# Altium footprint library cahrgebot_digital.PcbLib: 72 footprints (part 2 of 5)
Each footprint in its own frame and in the unit in brackets; x right, y up, seen from the top. Pads: shape width x height; smd on the part's side, far side on the other; paste and mask are expansions set on the pad; w line width, h text height; cw(c..) or ccw(c..) is an arc to the next point about the centre after c.
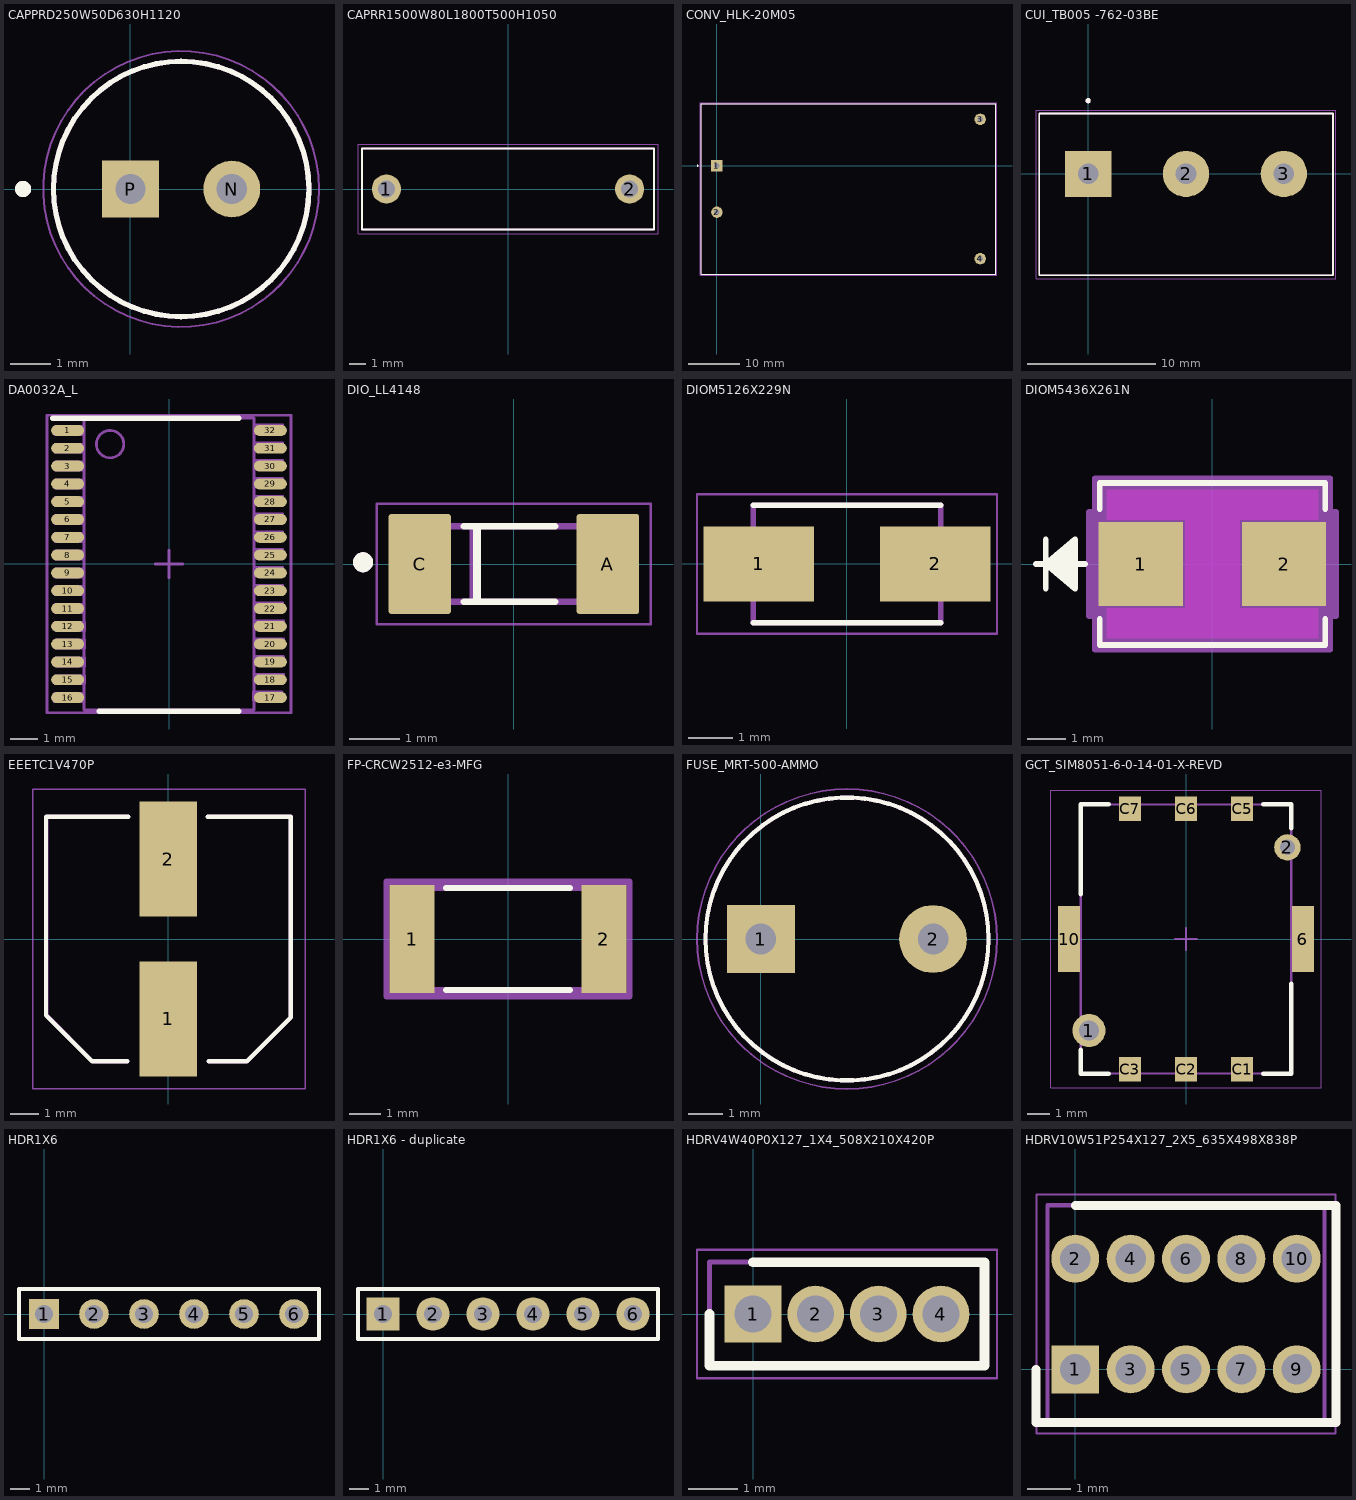
[diagram p1: the footprints below, top view; thin cyan lines are the x and y axes]

## CAPPRD250W50D630H1120 [mm]
height 12.2
pads (2):
  round 1.4 hole 0.75: N(2.5,0)
  rect 1.4x1.4 hole 0.75: P(0,0)
Top Overlay:
  circle w0.127: c1.25,0 r3.15
  circle w0.2: c-2.65,0 r0.1
Top Component Outline:
  circle w0.127: c1.25,0 r3.15
  circle w0.2: c-2.65,0 r0.1
  circle w0.127: c1.25,0 r3.15
Top Courtyard:
  circle w0.05: c1.25,0 r3.4
Top Designator:
  text ".Designator" at -2.335,3.86 h1.52
3D body "step_temp.STEP": height 11.2, standoff -17, extent -1.9,-3.149 4.4,3.149

## CAPRR1500W80L1800T500H1050 [mm]
pads (2):
  round 1.8 hole 1.05: 1(-7.5,0) 2(7.5,0)
Top Overlay:
  lines w0.127: -9,-2.5 -9,2.5 9,2.5 9,-2.5 -9,-2.5
Top Component Outline:
  lines w0.127: -9,-2.5 9,-2.5 9,2.5 -9,2.5 -9,-2.5
Top Courtyard:
  lines w0.05: -9.25,-2.75 9.25,-2.75 9.25,2.75 -9.25,2.75 -9.25,-2.75

## CONV_HLK-20M05 [mm]
height 21.8
pads (4):
  rect 2.2x2.2 hole 1.1: 1(0,0)
  round 2.2 hole 1.1: 2(0,-9) 3(51,9) 4(51,-18)
Top Overlay:
  circle w0.2: c-3.75,0 r0.1
  lines w0.127: -3,-21 -3,12 54,12 54,-21 -3,-21
Top Component Outline:
  circle w0.2: c-3.75,0 r0.1
  lines w0.127: -3,-21 -3,12 ; -3,-21 54,-21 ; -3,-21 54,-21 ; -3,-21 -3,12 ; -3,12 54,12 ; -3,12 54,12 ; 54,-21 54,12 ; 54,-21 54,12
Top Courtyard:
  lines w0.05: -3.25,-21.25 -3.25,12.25 54.25,12.25 54.25,-21.25 -3.25,-21.25
Top Designator:
  text ".Designator" at 21.526,12.813 h1.52
3D body "step_temp.STEP": height 22.5, standoff -5, extent -3,-21 54,12

## CUI_TB005 -762-03BE [mm]
height 21.7
pads (3):
  rect 3.6x3.6 hole 1.6: 1(0,0)
  round 3.6 hole 1.6: 2(7.62,0) 3(15.24,0)
Top Overlay:
  circle w0.2: c0,5.7 r0.1
  lines w0.127: -3.794,-7.9 -3.794,4.7 19.066,4.7 19.066,-7.9 -3.794,-7.9
Top Component Outline:
  circle w0.2: c0,5.7 r0.1
  lines w0.127: -3.81,-7.9 -3.81,4.7 ; -3.81,-7.9 19.05,-7.9 ; -3.81,-7.9 -3.81,4.7 ; -3.81,-7.9 19.05,-7.9 ; -3.81,4.7 19.05,4.7 ; -3.81,4.7 19.05,4.7 ; 19.05,-7.9 19.05,4.7 ; 19.05,-7.9 19.05,4.7
Top Courtyard:
  lines w0.05: -4.06,-8.15 19.3,-8.15 19.3,4.95 -4.06,4.95 -4.06,-8.15
Top Designator:
  text ".Designator" at 4.121,5.34 h1.52

## DA0032A_L [mm]
pads (32):
  oval 1.2x0.4 smd paste+0 mask+0.051: 1(-3.7,4.875) 2(-3.7,4.225) 3(-3.7,3.575) 4(-3.7,2.925) 5(-3.7,2.275) 6(-3.7,1.625) 7(-3.7,0.975) 8(-3.7,0.325) 9(-3.7,-0.325) 10(-3.7,-0.975) 11(-3.7,-1.625) 12(-3.7,-2.275) 13(-3.7,-2.925) 14(-3.7,-3.575) 15(-3.7,-4.225) 16(-3.7,-4.875) 17(3.7,-4.875) 18(3.7,-4.225) 19(3.7,-3.575) 20(3.7,-2.925) 21(3.7,-2.275) 22(3.7,-1.625) 23(3.7,-0.975) 24(3.7,-0.325) 25(3.7,0.325) 26(3.7,0.975) 27(3.7,1.625) 28(3.7,2.275) 29(3.7,2.925) 30(3.7,3.575) 31(3.7,4.225) 32(3.7,4.875)
Top Overlay:
  lines w0.2: -4.25,5.325 2.55,5.325 ; -2.55,-5.375 2.55,-5.375
Mechanical 13:
  circle w0.1: c-2.15,4.375 r0.5
  lines w0.1: -4.175,-5.025 -4.175,-4.725 -3.125,-4.725 -3.125,-5.025 -4.175,-5.025 ; -4.15,-1.775 -3.1,-1.775 -3.1,-1.475 -4.15,-1.475 -4.15,-1.775 ; -4.15,-1.125 -3.1,-1.125 -3.1,-0.825 -4.15,-0.825 -4.15,-1.125 ; -4.15,-0.475 -3.1,-0.475 -3.1,-0.175 -4.15,-0.175 -4.15,-0.475 ; -4.15,0.175 -3.1,0.175 -3.1,0.475 -4.15,0.475 -4.15,0.175 ; -4.15,0.825 -3.1,0.825 -3.1,1.125 -4.15,1.125 -4.15,0.825 ; -4.15,1.475 -3.1,1.475 -3.1,1.775 -4.15,1.775 -4.15,1.475 ; -4.15,2.125 -3.1,2.125 -3.1,2.425 -4.15,2.425 -4.15,2.125 ; -4.15,2.775 -3.1,2.775 -3.1,3.075 -4.15,3.075 -4.15,2.775 ; -4.15,3.425 -3.1,3.425 -3.1,3.725 -4.15,3.725 -4.15,3.425 ; -4.15,4.075 -3.1,4.075 -3.1,4.375 -4.15,4.375 -4.15,4.075 ; -4.15,4.725 -4.15,5.025 -3.1,5.025 -3.1,4.725 -4.15,4.725 ; -4.125,-4.375 -4.125,-4.075 -3.075,-4.075 -3.075,-4.375 -4.125,-4.375 ; -4.125,-3.725 -4.125,-3.425 -3.075,-3.425 -3.075,-3.725 -4.125,-3.725 ; -4.125,-3.075 -4.125,-2.775 -3.075,-2.775 -3.075,-3.075 -4.125,-3.075 ; -4.125,-2.425 -4.125,-2.125 -3.075,-2.125 -3.075,-2.425 -4.125,-2.425 ; -3.1,-5.325 3.1,-5.325 3.1,5.325 -3.1,5.325 -3.1,-5.325 ; 3.075,-4.975 4.125,-4.975 4.125,-4.675 3.075,-4.675 3.075,-4.975 ; 3.1,-1.725 3.1,-1.425 4.15,-1.425 4.15,-1.725 3.1,-1.725 ; 3.1,-1.075 3.1,-0.775 4.15,-0.775 4.15,-1.075 3.1,-1.075 ; 3.1,-0.425 3.1,-0.125 4.15,-0.125 4.15,-0.425 3.1,-0.425 ; 3.1,0.225 3.1,0.525 4.15,0.525 4.15,0.225 3.1,0.225 ; 3.1,0.875 3.1,1.175 4.15,1.175 4.15,0.875 3.1,0.875 ; 3.1,1.525 3.1,1.825 4.15,1.825 4.15,1.525 3.1,1.525 ; 3.1,2.175 3.1,2.475 4.15,2.475 4.15,2.175 3.1,2.175 ; 3.1,2.825 3.1,3.125 4.15,3.125 4.15,2.825 3.1,2.825 ; 3.1,3.475 3.1,3.775 4.15,3.775 4.15,3.475 3.1,3.475 ; 3.1,4.125 3.1,4.425 4.15,4.425 4.15,4.125 3.1,4.125 ; 3.1,4.775 4.15,4.775 4.15,5.075 3.1,5.075 3.1,4.775 ; 3.125,-4.325 4.175,-4.325 4.175,-4.025 3.125,-4.025 3.125,-4.325 ; 3.125,-3.675 4.175,-3.675 4.175,-3.375 3.125,-3.375 3.125,-3.675 ; 3.125,-3.025 4.175,-3.025 4.175,-2.725 3.125,-2.725 3.125,-3.025 ; 3.125,-2.375 4.175,-2.375 4.175,-2.075 3.125,-2.075 3.125,-2.375
  text ".Designator" at -1.85,-0.935 h1.27
Mechanical 15:
  lines w0.1: -0.5,0 0.5,0 ; 0,-0.5 0,0.5 ; -4.45,-5.425 4.45,-5.425 4.45,5.425 -4.45,5.425 -4.45,-5.425
3D body: height 0.25, standoff 0, extent 0,0 0.254,0.254
3D body "DA0032A.stp": height 1.09, standoff 0, extent -4.05,-5.5 4.05,5.5

## DIO_LL4148 [mm]
height 1.6
pads (2):
  rrect10% 1.25x2 smd mask+0.076: A(1.875,0) C(-1.875,0)
Top Overlay:
  circle w0.2: c-3.006,0.035 r0.1
  lines w0.127: -1,-0.75 0.83,-0.75 ; -1,0.75 0.83,0.75
  lines w0.152: -0.734,-0.735 -0.734,0.725
Top Component Outline:
  circle w0.2: c-3.006,0.035 r0.1
  lines w0.127: -0.82,-0.75 -0.82,0.75 ; -0.72,-0.75 -0.72,0.75 ; -1.82,-0.75 -1.82,0.75 1.82,0.75 1.82,-0.75 -1.82,-0.75
Top Courtyard:
  lines w0.05: -2.73,-1.2 2.73,-1.2 2.73,1.2 -2.73,1.2 -2.73,-1.2
Top Designator:
  text ".Designator" at -3.556,1.481 h1.52
3D body "step_temp.STEP": height 1.5, standoff 0, extent -1.725,-0.75 1.725,0.75

## DIOM5126X229N [mm]
height 2.4
pads (2):
  rect 2.5x1.7 smd mask+0.076: 1(-2,0) 2(2,0)
Top Overlay:
  lines w0.127: -2.123,-1.332 2.123,-1.332 ; -2.123,1.332 2.123,1.332
Top Component Outline:
  lines w0.127: -2.123,-1.332 2.123,-1.332 2.123,1.332 -2.123,1.332 -2.123,-1.332
Top Courtyard:
  lines w0.05: -3.4,-1.582 3.4,-1.582 3.4,1.582 -3.4,1.582 -3.4,-1.582
Top Designator:
  text ".Designator" at -3.489,2.04 h1.52

## DIOM5436X261N [mil]
pads (2):
  rect 86x86 smd paste+0 mask+0: 1(-73,0) 2(73,0)
Top Layer keep-out:
  region: -108,-75.5 -108,-45 108,-45 108,-75.5
  region: -108,45 -108,75.5 108,75.5 108,45
  region: -28,-45 -28,45 28,45 28,-45
Top Overlay:
  lines w6: -180,0 -130,0 ; -170,-25 -170,25 ; -140,-20 -170,0 ; -140,-15 -170,0 ; -140,-10 -170,0 ; -140,-5 -170,0 ; -140,5 -170,0 ; -140,10 -170,0 ; -140,15 -170,0 ; -140,20 -170,0 ; -115,-56.1 -115,-82.5 115,-82.5 115,-56.1 ; -115,56.1 -115,82.5 115,82.5 115,56.1 ; -170,0 -140,-25 -140,25 -170,0
Keep-Out Layer:
  region: -28,-45 -28,45 28,45 28,-45
Mechanical 13:
  lines w1: -180,0 -130,0 ; -170,-25 -170,25 ; -140,-20 -170,0 ; -140,-15 -170,0 ; -140,-10 -170,0 ; -140,-5 -170,0 ; -140,5 -170,0 ; -140,10 -170,0 ; -140,15 -170,0 ; -140,20 -170,0 ; -170,0 -140,-25 -140,25 -170,0 ; -110,-77.5 -110,77.5 110,77.5 110,-77.5 -110,-77.5
Mechanical 15:
  region: -120,-53 -126,-53 -126,53 -120,53 -120,87.5 120,87.5 120,53 126,53 126,-53 120,-53 120,-87.5 -120,-87.5
  lines w6: -126,-53 -120,-53 -120,-87.5 120,-87.5 120,-53 126,-53 126,53 120,53 120,87.5 -120,87.5 -120,53 -126,53 -126,-53
3D body "SMBJSeries_LTF.step": height 97.99, standoff 0, extent -110,-77.48 110,77.48

## EEETC1V470P [mm]
height 10.2
pads (2):
  rect 2x4 smd mask+0.076: 1(0,-2.775) 2(0,2.775)
Top Overlay:
  lines w0.152: -4.25,4.218 -4.25,-2.643 -2.643,-4.25 -2.3,-4.25 -1.429,-4.25 ; -4.237,4.248 -1.397,4.25 ; 1.372,4.25 4.246,4.246 ; 1.4,-4.25 2.27,-4.25 2.721,-4.25 4.25,-2.721 4.25,4.191
Top Component Outline:
  lines w0.152: -4.24,4.218 -4.24,-2.643 -2.633,-4.25 -2.29,-4.25 -1.419,-4.25 ; -4.227,4.248 -1.387,4.25 ; 1.372,4.25 4.246,4.246 ; 1.4,-4.25 2.27,-4.25 2.721,-4.25 4.25,-2.721 4.25,4.191
Top Courtyard:
  lines w0.05: -4.705,-5.207 4.749,-5.207 4.749,5.207 -4.705,5.207 -4.705,-5.207
Top Designator:
  text ".Designator" at -3.434,5.624 h1.52

## FP-CRCW2512-e3-MFG [mm]
height 0.65
pads (2):
  rect 1.45x3.5 smd paste+0 mask+0.076: 1(-3.1,0) 2(3.1,0)
Top Overlay:
  lines w0.2: -2,-1.65 2,-1.65 ; -2,1.65 2,1.65
Top Component Outline:
  lines w0.2: -3.25,-1.65 -3.25,1.65 3.25,1.65 3.25,-1.65 -3.25,-1.65
Top Courtyard:
  lines w0.2: -3.925,-1.85 -3.925,1.85 3.925,1.85 3.925,-1.85 -3.925,-1.85
Mechanical 7:
  lines w0.2: -3.925,-1.85 -3.925,1.85 3.925,1.85 3.925,-1.85 -3.925,-1.85
Top Designator:
  text ".Designator" at -3.607,2.38 h1.52
3D body "Res_Vishay_CRCW25121K80FKEG_eec.STEP": height 0.25, standoff 0, extent -3.925,-1.85 3.925,1.85

## FUSE_MRT-500-AMMO [mm]
height 7.9
pads (2):
  rect 2x2 hole 0.9: 1(0,0)
  round 2 hole 0.9: 2(5.08,0)
Top Overlay:
  circle w0.127: c2.54,0 r4.175
Top Component Outline:
  circle w0.127: c2.54,0 r4.175
  circle w0.127: c2.54,0 r4.175
Top Courtyard:
  circle w0.05: c2.54,0 r4.425
Top Designator:
  text ".Designator" at -0.719,4.835 h1.52

## GCT_SIM8051-6-0-14-01-X-REVD [mm]
pads (10):
  round 1.5 hole 0.9: 1(-4.4,-4.15)
  round 1.2 hole 0.7: 2(4.6,4.15)
  rect 1x3 smd: 6(5.3,0) 10(-5.3,0)
  rect 1x1.1 smd: C1(2.54,-5.9) C2(0,-5.9) C3(-2.54,-5.9) C5(2.54,5.9) C6(0,5.9) C7(-2.54,5.9)
Top Overlay:
  lines w0.2: -4.77,-5.02 -4.77,-6.1 -3.5,-6.1 ; -4.77,2.02 -4.77,6.1 -3.5,6.1 ; 3.5,-6.1 4.77,-6.1 4.77,-2.02 ; 3.5,6.1 4.77,6.1 4.77,5.02
Mechanical 13:
  lines w0.1: -4.77,-6.1 -4.77,6.1 4.77,6.1 4.77,-6.1 -4.77,-6.1
Mechanical 15:
  lines w0.05: -6.125,-6.75 6.125,-6.75 6.125,6.75 -6.125,6.75 -6.125,-6.75
  lines w0.1: -0.5,0 0.5,0 ; 0,-0.5 0,0.5

## HDR1X6 [mm] "Connector; Header; 6 Position"
pads (6):
  rect 1.5x1.5 hole 0.9: 1(0,0)
  round 1.5 hole 0.9: 2(2.54,0) 3(5.08,0) 4(7.62,0) 5(10.16,0) 6(12.7,0)
Top Overlay:
  lines w0.2: -1.27,-1.27 -1.27,1.27 13.97,1.27 13.97,-1.27 -1.27,-1.27

## HDR1X6 - duplicate [mm] "Connector; Header; 6 Position"
pads (6):
  rect 1.7x1.7 hole 0.9 mask+0.076: 1(0,0)
  round 1.7 hole 0.9 mask+0.076: 2(2.54,0) 3(5.08,0) 4(7.62,0) 5(10.16,0) 6(12.7,0)
Top Overlay:
  lines w0.2: -1.27,-1.27 -1.27,1.27 13.97,1.27 13.97,-1.27 -1.27,-1.27
Top Component Outline:
  lines w0.2: -1.27,-1.27 -1.27,1.27 13.97,1.27 13.97,-1.27 -1.27,-1.27
Top Courtyard:
  lines w0.2: -1.27,-1.27 -1.27,1.27 13.97,1.27 13.97,-1.27 -1.27,-1.27
Top Designator:
  text ".Designator" at 2.846,1.842 h1.52

## HDRV4W40P0X127_1X4_508X210X420P [mm]
pads (4):
  rect 1.15x1.15 hole 0.75: 1(0,0)
  round 1.15 hole 0.75: 2(1.27,0) 3(2.54,0) 4(3.81,0)
Top Overlay:
  lines w0.2: -0.885,0 -0.885,-1.05 4.695,-1.05 4.695,1.05 0,1.05
Mechanical 13:
  lines w0.1: -0.885,-1.05 4.695,-1.05 4.695,1.05 -0.885,1.05 -0.885,-1.05
Mechanical 15:
  lines w0.05: -1.135,-1.3 4.945,-1.3 4.945,1.3 -1.135,1.3 -1.135,-1.3
3D body "M50-3530442.stp": height 4, standoff -2.3, extent -0.635,-1.05 4.445,1.05

## HDRV10W51P254X127_2X5_635X498X838P [mm]
pads (10):
  rect 1.1x1.1 hole 0.7: 1(0,0)
  round 1.1 hole 0.7: 2(0,2.54) 3(1.27,0) 4(1.27,2.54) 5(2.54,0) 6(2.54,2.54) 7(3.81,0) 8(3.81,2.54) 9(5.08,0) 10(5.08,2.54)
Top Overlay:
  lines w0.2: -0.9,0 -0.9,-1.22 5.98,-1.22 5.98,3.76 0,3.76
Mechanical 13:
  lines w0.1: -0.635,-1.22 -0.635,3.76 5.715,3.76 5.715,-1.22 -0.635,-1.22
Mechanical 15:
  lines w0.05: -0.885,-1.47 -0.885,4.01 5.965,4.01 5.965,-1.47 -0.885,-1.47
3D body "TMS-105-01-L-D.stp": height 8.38, standoff -3.05, extent -0.635,-1.22 5.715,3.76